# Altium footprint library thermostat.PcbLib: 105 footprints (part 2 of 7)
Each footprint in its own frame and in the unit in brackets; x right, y up, seen from the top. Pads: shape width x height; smd on the part's side, far side on the other; paste and mask are expansions set on the pad; w line width, h text height; cw(c..) or ccw(c..) is an arc to the next point about the centre after c.
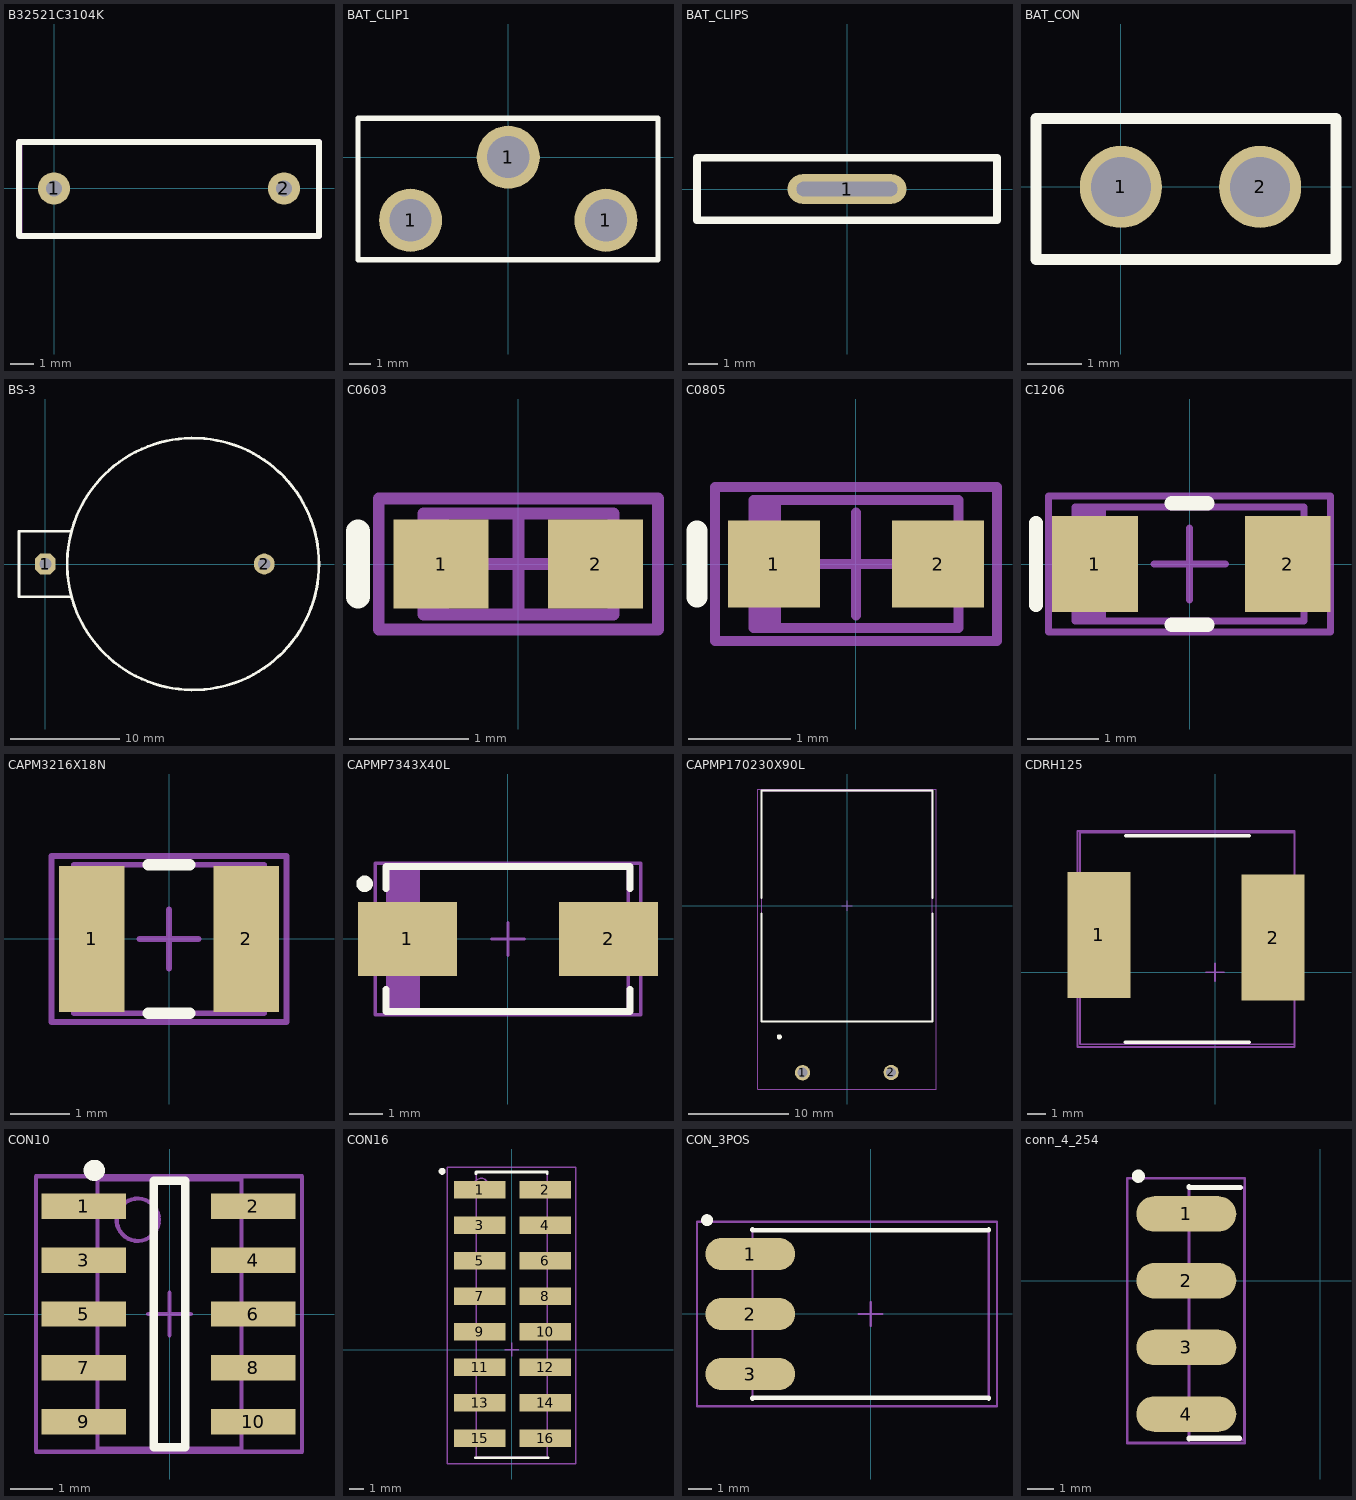
[diagram p1: the footprints below, top view; thin cyan lines are the x and y axes]

## B32521C3104K [mm] "CAP FILM 0.1UF 250VDC RADIAL"
height 7
pads (2):
  round 1.4 hole 0.7: 1(0,0) 2(10,0)
Top Overlay:
  lines w0.254: -1.525,-2.05 -1.5,-2.075 11.525,-2.075 11.525,2.025 -1.525,2.025 -1.525,-2.05
Mechanical 15:
  lines w0.254: 11.525,-0.05 11.525,-2.075 0,-2.075 -1.5,-2.075 -1.5,-0.025 -1.5,2.025 0,2.025 11.525,2.025 11.525,0
3D body: height 7, standoff 0.1, extent -1.525,-2.05 11.55,2.025

## BAT_CLIP1 [mm] "CONTACT BATTERY AA NEGATIVE"
height 14
pads (3):
  round 3 hole 2: 1(-4.65,-3) 1(0,0) 1(4.65,-3)
Top Overlay:
  lines w0.254: -7.15,-4.875 7.125,-4.875 7.125,1.85 -7.15,1.85 -7.15,-4.875
3D body: height 14, standoff 0, extent -6.475,-4.375 6.25,1.35

## BAT_CLIPS [mm] "AA NEGATIVE SPRING CONTACT PCB"
height 14
pads (1):
  oval 4x1 hole 0.5 slot 3.4 at 0 deg: 1(0,0)
Top Overlay:
  lines w0.254: -5.05,1.05 0,1.05 5.05,1.05 5.05,-1.05 0,-1.05 -5.05,-1.05 -5.05,1.025 ; -5.05,1.025 -5.05,1.025
3D body: height 13, standoff 0, extent -4.925,-0.925 4.925,0.925

## BAT_CON [mm]
pads (2):
  round 1.5 hole 1.1: 1(0,0) 2(2.54,0)
Top Overlay:
  lines w0.2: -1.55,-1.325 3.925,-1.325 3.925,0 3.925,1.25 -1.55,1.25 -1.55,-1.325

## BS-3 [mm] "Lithium battery CR2032 holder"
pads (2):
  oct 1.9x1.9 hole 1.1: 1(0,0)
  round 1.9 hole 1.1: 2(20,0)
Top Overlay:
  circle w0.254: c13.5,0 r11.5
  lines w0.254: 2.4,-3 -2.4,-3 -2.4,3 2.4,3
3D body: height 6.75, standoff 0, extent 2.116,-11.552 25.025,11.402
3D body: height 6, standoff 2, extent -2.4,-3 2.4,3

## C0603 [mm]
height 1.2
pads (2):
  rect 0.8x0.75 smd: 1(-0.65,0) 2(0.65,0)
Top Overlay:
  lines w0.2: -1.35,-0.275 -1.35,0.275
Mechanical 13:
  rectangle: -0.8,-0.425 -0.585,0.425
  lines w0.1: -0.8,-0.425 0.8,-0.425 0.8,0.425 -0.8,0.425 -0.8,-0.425
Mechanical 15:
  lines w0.1: -0.425,0 0.425,0 ; 0,-0.425 0,0.425 ; -1.175,-0.55 1.175,-0.55 1.175,0.55 -1.175,0.55 -1.175,-0.55
3D body: height 1.2, standoff 0, extent -0.8,-0.425 0.8,0.425

## C0805 [mm] "Molded Capacitor, 2-Leads, Body 2,0x1,3mm, IPC High Density"
height 1.1
pads (2):
  rect 0.9x0.85 smd: 1(-0.8,0) 2(0.8,0)
Top Overlay:
  lines w0.2: -1.55,-0.325 -1.55,0.325
Mechanical 13:
  rectangle: -1,-0.625 -0.731,0.625
  lines w0.1: -1,-0.625 -1,0.625 1,0.625 1,-0.625 -1,-0.625
Mechanical 15:
  lines w0.1: -0.5,0 0.5,0 ; 0,-0.5 0,0.5 ; -1.375,-0.75 -1.375,0.75 1.375,0.75 1.375,-0.75 -1.375,-0.75
3D body: height 1.1, standoff 0, extent -1,-0.625 1,0.625

## C1206 [mm]
height 1.7
pads (2):
  rect 1.2x1.35 smd: 1(-1.325,0) 2(1.375,0)
Top Overlay:
  lines w0.2: -2.15,-0.575 -2.15,0.575 ; -0.25,-0.85 0.25,-0.85 ; -0.25,0.85 0.25,0.85
Mechanical 13:
  rectangle: -1.6,-0.8 -1.17,0.8
  lines w0.1: -1.6,-0.8 1.6,-0.8 1.6,0.8 -1.6,0.8 -1.6,-0.8
Mechanical 15:
  lines w0.1: -0.5,0 0.5,0 ; 0,-0.5 0,0.5 ; -1.975,-0.95 1.975,-0.95 1.975,0.95 -1.975,0.95 -1.975,-0.95
3D body: height 1.7, standoff 0, extent -1.6,-0.8 1.6,0.8

## CAPM3216X18N [mm]
height 1.6
pads (2):
  rect 1.1x2.45 smd: 1(-1.3,0) 2(1.3,0)
Top Overlay:
  lines w0.2: -0.35,-1.25 0.35,-1.25 ; -0.35,1.25 0.35,1.25
Mechanical 13:
  lines w0.1: -1.6,-1.25 -1.6,1.25 1.6,1.25 1.6,-1.25 -1.6,-1.25
Mechanical 15:
  lines w0.1: -0.5,0 0.5,0 ; 0,-0.5 0,0.5 ; -1.975,-1.4 -1.975,1.4 1.975,1.4 1.975,-1.4 -1.975,-1.4
3D body: height 1.6, standoff 0, extent -1.6,-1.25 1.6,1.25

## CAPMP7343X40L [mm] "Molded Capacitor, 2-Leads, Body 7,3x4,3mm, IPC High Density"
height 4
pads (2):
  rect 3x2.25 smd: 1(-3.05,0) 2(3.05,0)
Top Overlay:
  circle w0.25: c-4.35,1.675 r0.125
  lines w0.2: -3.7,-1.525 -3.7,-2.2 3.7,-2.2 3.7,-1.525 ; -3.7,1.525 -3.7,2.2 3.7,2.2 3.7,1.525
Mechanical 13:
  rectangle: -3.65,-2.15 -2.668,2.15
  lines w0.1: -3.65,-2.15 3.65,-2.15 3.65,2.15 -3.65,2.15 -3.65,-2.15
Mechanical 15:
  lines w0.1: -0.5,0 0.5,0 ; 0,-0.5 0,0.5 ; -4.025,-2.3 4.025,-2.3 4.025,2.3 -4.025,2.3 -4.025,-2.3
3D body: height 4, standoff 0, extent -3.65,-2.15 3.65,2.15

## CAPMP170230X90L [mm] "Molded Capacitor, 2-Leads, Body 17,0x23,0mm, IPC High Density"
height 9
pads (2):
  round 1.524 hole 1: 1(-4.425,-16.625) 2(4.4,-16.6)
Top Overlay:
  circle w0.25: c-6.75,-13.05 r0.125
  lines w0.2: -8.5,-0.775 -8.5,-11.5 8.5,-11.5 8.5,-0.775 ; -8.5,0.775 -8.5,11.5 8.5,11.5 8.5,0.775
Mechanical 13:
  lines w0.1: -8.5,-11.5 -8.5,11.5 8.5,11.5 8.5,-11.5 -8.5,-11.5
Mechanical 15:
  lines w0.1: -0.5,0 0.5,0 ; 0,-0.5 0,0.5 ; -8.875,-18.25 -8.875,11.65 8.875,11.65 8.875,-18.25 -8.875,-18.25
3D body: height 9, standoff 0, extent -8.5,-11.5 8.5,11.5

## CDRH125 [mm] "POWER INDUCTOR 100UH 1.6A SMD"
height 6
pads (2):
  rect 3.5x7 smd: 1(-6.45,2.075) 2(3.225,1.925)
Top Overlay:
  lines w0.2: -5,-3.9 1.9,-3.9 ; -4.95,7.6 1.9,7.6
Mechanical 13:
  lines w0.1: -7.5,-4 -7.5,7.775 4.4,7.775 4.4,-4 -7.5,-4
Mechanical 15:
  lines w0.1: -0.5,0 0.5,0 ; 0,-0.5 0,0.5 ; -7.65,-4.15 -7.65,7.85 4.425,7.85 4.425,-4.15 -7.65,-4.15
3D body: height 6, standoff 0, extent -7.55,-4.025 4.35,7.75

## CON10 [mm] "SOP, 10-Leads, Body 6,3x3,4mm (max), Pitch 1,27mm, IPC High Density"
height 5
pads (10):
  rect 2x0.6 smd: 1(-2.025,2.54) 2(1.975,2.54) 3(-2.025,1.27) 4(1.975,1.27) 5(-2.025,0) 6(1.975,0) 7(-2.025,-1.27) 8(1.975,-1.27) 9(-2.025,-2.54) 10(1.975,-2.54)
Top Overlay:
  circle w0.25: c-1.775,3.39 r0.125
  lines w0.2: -0.375,-3.15 -0.375,3.15 0.375,3.15 0.375,-3.15 -0.375,-3.15
Mechanical 13:
  circle w0.1: c-0.75,2.225 r0.5
  lines w0.1: -1.7,-3.175 -1.7,3.175 1.7,3.175 1.7,-3.175 -1.7,-3.175
Mechanical 15:
  lines w0.1: -0.5,0 0.5,0 ; 0,-0.5 0,0.5 ; -3.15,-3.25 -3.15,3.25 3.125,3.25 3.125,-3.25 -3.15,-3.25
3D body: height 5, standoff 0.2, extent -1.7,-3.175 1.7,3.175

## CON16 [mm] "16-Leads, Body 25,4x5,1mm (max), Pitch 2,54mm, IPC High Density"
height 7
pads (16):
  rect 3.68x1.27 smd: 1(-2.275,11.43) 2(2.4,11.43) 3(-2.275,8.89) 4(2.4,8.89) 5(-2.275,6.35) 6(2.4,6.35) 7(-2.275,3.81) 8(2.4,3.81) 9(-2.275,1.27) 10(2.4,1.27) 11(-2.275,-1.27) 12(2.4,-1.27) 13(-2.275,-3.81) 14(2.4,-3.81) 15(-2.275,-6.35) 16(2.4,-6.35)
Top Overlay:
  circle w0.25: c-4.975,12.75 r0.125
  lines w0.2: -2.6,-7.75 0.375,-7.75 ; -2.55,12.575 -2.55,12.7 0.425,12.7 ; -0.425,12.7 2.55,12.7 2.55,12.575 ; -0.375,-7.75 2.6,-7.75
Mechanical 13:
  circle w0.1: c-2.19,11.75 r0.5
  lines w0.1: -2.54,-7.725 -2.54,12.7 2.54,12.7 2.54,-7.725 -2.54,-7.725
Mechanical 15:
  lines w0.1: -0.5,0 0.5,0 ; 0,-0.5 0,0.5 ; -4.6,-8.175 -4.6,13.05 4.575,13.05 4.575,-8.175 -4.6,-8.175
3D body: height 7, standoff 0.1, extent -2.54,-7.75 2.54,12.7

## CON_3POS [mm] "3POS, 6-Leads, Body 7,1x10,0mm (max), Pitch 2,54mm, IPC High Density"
height 8
pads (3):
  oval 3.8x1.35 smd: 1(-5.1,2.54) 2(-5.1,0) 3(-5.1,-2.54)
Top Overlay:
  circle w0.25: c-6.925,3.975 r0.125
  lines w0.2: -5,-3.575 -5,-3.55 0.425,-3.55 ; -5,3.575 -5,3.55 0.425,3.55 ; -0.425,-3.55 5,-3.55 5,-3.575 ; -0.425,3.55 5,3.55 5,3.575
Mechanical 13:
  circle w0.1: c-5.8,2.59 r0.5
  lines w0.1: -5,-3.54 -5,3.54 5,3.54 5,-3.54 -5,-3.54
Mechanical 15:
  lines w0.1: -0.5,0 0.5,0 ; 0,-0.5 0,0.5 ; -7.35,-3.9 -7.35,3.9 5.35,3.9 5.35,-3.9 -7.35,-3.9
3D body: height 8, standoff 0.1, extent -5,-3.54 5,3.54

## conn_4_254 [mm]
height 1.5
pads (4):
  oval 3.8x1.35 smd: 1(-5.1,2.54) 2(-5.1,0) 3(-5.1,-2.54) 4(-5.1,-5.075)
Top Overlay:
  circle w0.25: c-6.925,3.975 r0.125
  lines w0.2: -5,-6.025 -5,-6 -3.075,-6 ; -5,3.575 -5,3.55 -3.05,3.55
Mechanical 13:
  circle w0.1: c-5.8,2.59 r0.5
  lines w0.1: -5,-6.05 -5,3.54 -2.9,3.54 -2.9,-6.05 -5,-6.05
Mechanical 15:
  lines w0.1: -7.35,-6.175 -7.35,3.9 -2.875,3.9 -2.875,-6.175 -7.35,-6.175
3D body: height 1.5, standoff 0, extent -5,-6.025 -2.925,3.54